# Altium footprint library R-6.PcbLib: 1 footprints
Each footprint in its own frame and in the unit in brackets; x right, y up, seen from the top. Pads: shape width x height; smd on the part's side, far side on the other; paste and mask are expansions set on the pad; w line width, h text height; cw(c..) or ccw(c..) is an arc to the next point about the centre after c.
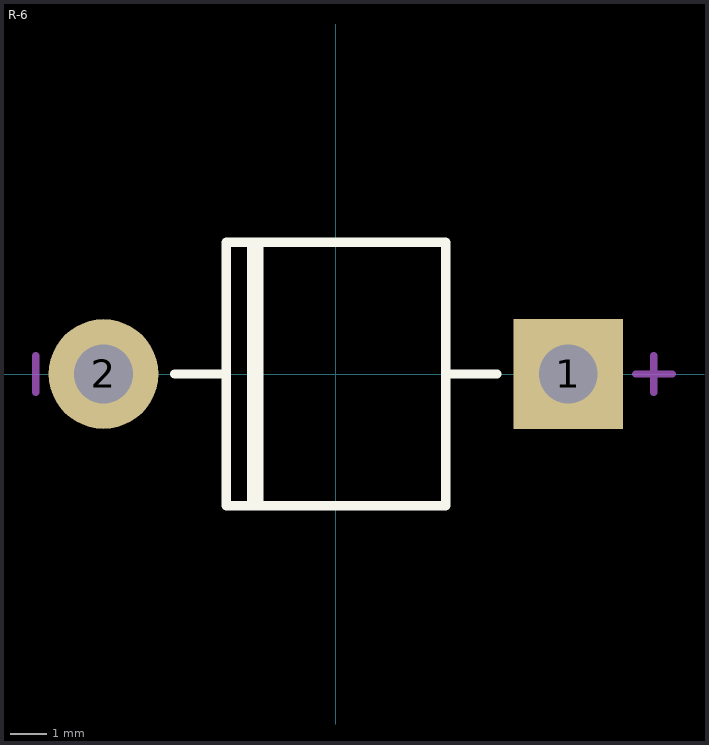
[diagram p0: the footprint, top view; thin cyan lines are the x and y axes]

## R-6 [mm]
pads (2):
  rect 3x3 hole 1.6: 1(6.35,0)
  round 3 hole 1.6: 2(-6.35,0)
Top Overlay:
  lines w0.254: -4.4,0 -3,0 ; -2.3,-3.6 -2.3,3.6 ; -2.1,-3.6 -2.1,3.6 ; 3,0 4.4,0 ; -3,-3.6 3,-3.6 3,3.6 -3,3.6 -3,-3.6
Mechanical 15:
  lines w0.203: -8.2,-0.5 -8.2,0.5 ; 8.19,0 9.19,0 ; 8.69,-0.5 8.69,0.5